# EAGLE library part ADUM5000 (library di_ic)
Analog Devices - 2.5 kV, Isolated DC-to-DC Converter. http://www.analog.com/static/imported-files/data_sheets/ADuM5000.pdf
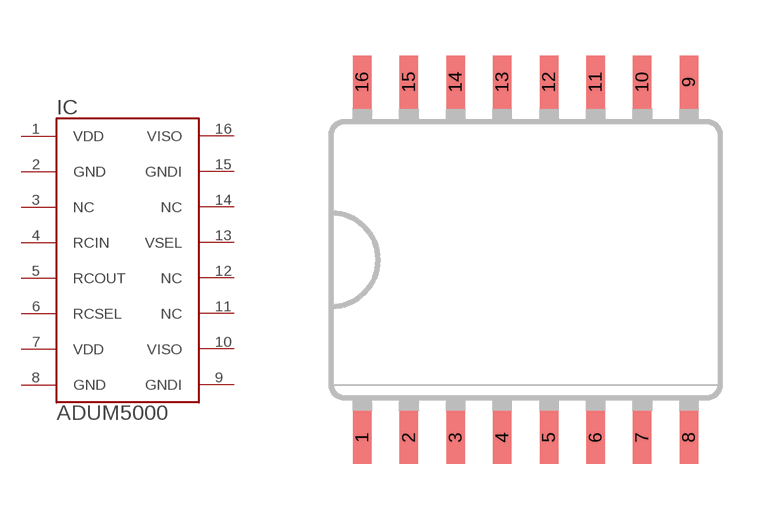
[diagram p56: symbol with the pads of SO16W; footprint SO16W]

Designator prefix IC

## ADUM5000  [SO16W]
1  VDD  pwr
2  GND  pwr
3  NC
4  RCIN
5  RCOUT
6  RCSEL
7  VDD  pas
8  GND  pwr
9  GNDI  pwr
10  VISO  pas
11  NC
12  NC
13  VSEL
14  NC
15  GNDI  pwr
16  VISO  pwr

## Footprint SO16W (pad centres in mm)
Small Outline Package .300 SIOC Source: http://www.maxim-ic.com/cgi-bin/packages?pkg=16%2FSOIC%2E300&Type=Max
smd 0.5 x 1.43: 1 -4.41,-4.8; 2 -3.15,-4.8; 3 -1.89,-4.8; 4 -0.63,-4.8; 5 0.63,-4.8; 6 1.89,-4.8; 7 3.15,-4.8; 8 4.41,-4.8; 9 4.41,4.8; 10 3.15,4.8; 11 1.89,4.8; 12 0.63,4.8; 13 -0.63,4.8; 14 -1.89,4.8; 15 -3.15,4.8; 16 -4.41,4.8